# Altium schematic symbol library Motor Ctrl_TMC5130A-TA.Schlib: 1 symbol
Pins are listed as number, name and electrical type; pins without a type are passive.

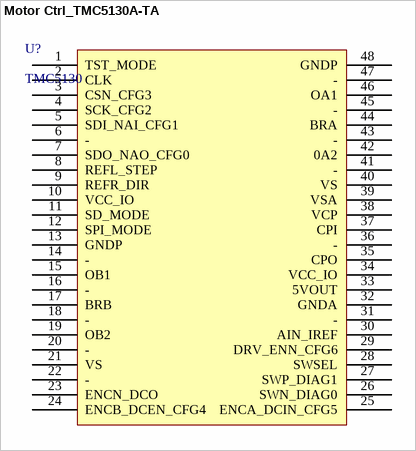
[diagram p0: symbol Motor Ctrl_TMC5130A-TA]

## Motor Ctrl_TMC5130A-TA
designator U?, comment TMC5130
footprint TSQFP50P900X900X120_HS-49N (TSQFP, 48-Leads, Body 7.00x7.00mm, Pitch 0.50mm, Thermal Pad 5.10x5.10mm, IPC Medium Density)
pins: 1 TST_MODE, 2 CLK, 3 CSN_CFG3, 4 SCK_CFG2, 5 SDI_NAI_CFG1, 6 -, 7 SDO_NAO_CFG0, 8 REFL_STEP, 9 REFR_DIR, 10 VCC_IO, 11 SD_MODE, 12 SPI_MODE, 13 GNDP, 14 -, 15 OB1, 16 -, 17 BRB, 18 -, 19 OB2, 20 -, 21 VS, 22 -, 23 ENCN_DCO, 24 ENCB_DCEN_CFG4, 25 ENCA_DCIN_CFG5, 26 SWN_DIAG0, 27 SWP_DIAG1, 28 SWSEL, 29 DRV_ENN_CFG6, 30 AIN_IREF, 31 -, 32 GNDA, 33 5VOUT, 34 VCC_IO, 35 CPO, 36 -, 37 CPI, 38 VCP, 39 VSA, 40 VS, 41 -, 42 0A2, 43 -, 44 BRA, 45 -, 46 OA1, 47 -, 48 GNDP